# Altium schematic symbol library TLV9001.Schlib: 1 symbol
Pins are listed as number, name and electrical type; pins without a type are passive.

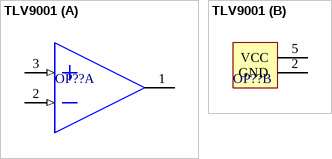
[diagram p0: symbol TLV9001]

## TLV9001
designator OP??
part A pins: 1, 2 (in), 3 (in)
part B pins: 2 GND (power), 5 VCC (power)